# EAGLE library part MCP4921 (library mille-feuille)
12-Bit DAC with SPI™ Interface
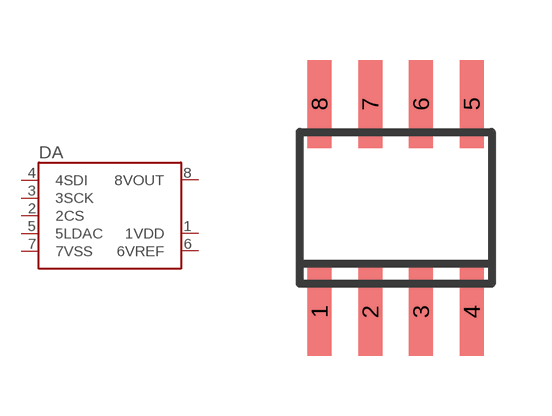
[diagram p3: symbol with the pads of SO-8; footprint SO-8]

Designator prefix DA

## MCP4921  [SO-8]
1  1VDD
2  2CS
3  3SCK
4  4SDI
5  5LDAC
6  6VREF
7  7VSS
8  8VOUT

## Footprint SO-8 (pad centres in mm)
smd 0.6 x 2.2: 1 -1.905,-2.6; 2 -0.635,-2.6; 3 0.635,-2.6; 4 1.905,-2.6; 5 1.905,2.6; 6 0.635,2.6; 7 -0.635,2.6; 8 -1.905,2.6